# EAGLE library part CK8650 (library mynixies)
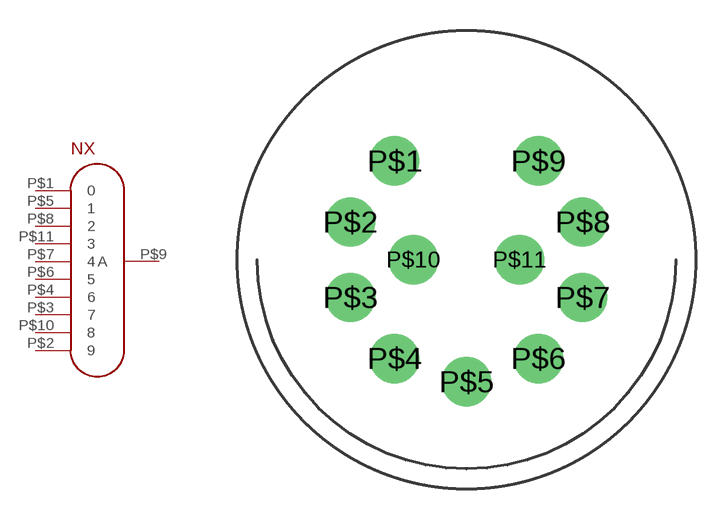
[diagram p22: symbol with the pads of CK1806; footprint CK1806]

Designator prefix NX

## CK8650D-SUB  [CK1806]
P$1  0
P$2  9
P$3  7
P$4  6
P$5  1
P$6  5
P$7  4
P$8  2
P$9  A
P$10  8
P$11  3

## Footprint CK1806 (pad centres in mm)
drill 1.6: P$1 -3.483,4.793; P$2 -5.635,1.831; P$3 -5.635,-1.831; P$4 -3.483,-4.793; P$5 0,-5.925; P$6 3.483,-4.793; P$7 5.635,-1.831; P$8 5.635,1.831; P$9 3.483,4.793; P$10 -2.58,0; P$11 2.58,0